# Altium schematic symbol library SnapEDAsch.SchLib: 1 symbol
Pins are listed as number, name and electrical type; pins without a type are passive.

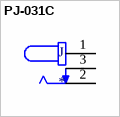
[diagram p0: symbol PJ-031C]

## PJ-031C
designator J
1.0 x 4.2 mm, 2.0 A, Horizontal, Through Hole, Dc Power Jack Connector; MF: CUI Devices; MP: PJ-031C; Value: *; Package: None; SnapEDA_Link: https://www.snapeda.com/parts/PJ-031C/CUI%20Devices/view-part/699414/?ref=snap; Price: None; Availability: Unavailable
footprint CUI_PJ-031C
pins: 1, 2, 3